# EAGLE library part TPS63030 (library X893)
TPS63030 <http://www.ti.com/lit/ds/symlink/tps63061.pdf>
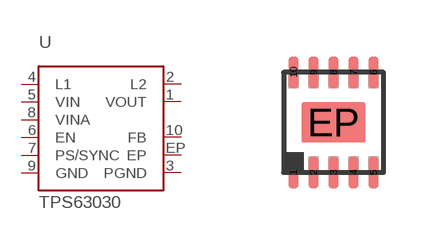
[diagram p236: symbol with the pads of PDSO10-2.5X2.5; footprint PDSO10-2.5X2.5]

Designator prefix U

## TPS63030  [PDSO10-2.5X2.5]
1  VOUT
2  L2
3  PGND
4  L1
5  VIN
6  EN
7  PS/SYNC
8  VINA
9  GND
10  FB
EP  EP

## Footprint PDSO10-2.5X2.5 (pad centres in mm)
smd 0.25 x 0.8: 1 -1,-1.25; 2 -0.5,-1.25; 3 0,-1.25; 4 0.5,-1.25; 5 1,-1.25; 6 1,1.25; 7 0.5,1.25; 8 0,1.25; 9 -0.5,1.25; 10 -1,1.25
smd 1.6 x 1: EP 0,0